# Altium integrated library Analog Devices Data Converters Analog-to-Digital Converters.IntLib: 2400 symbols (part 330 of 338)
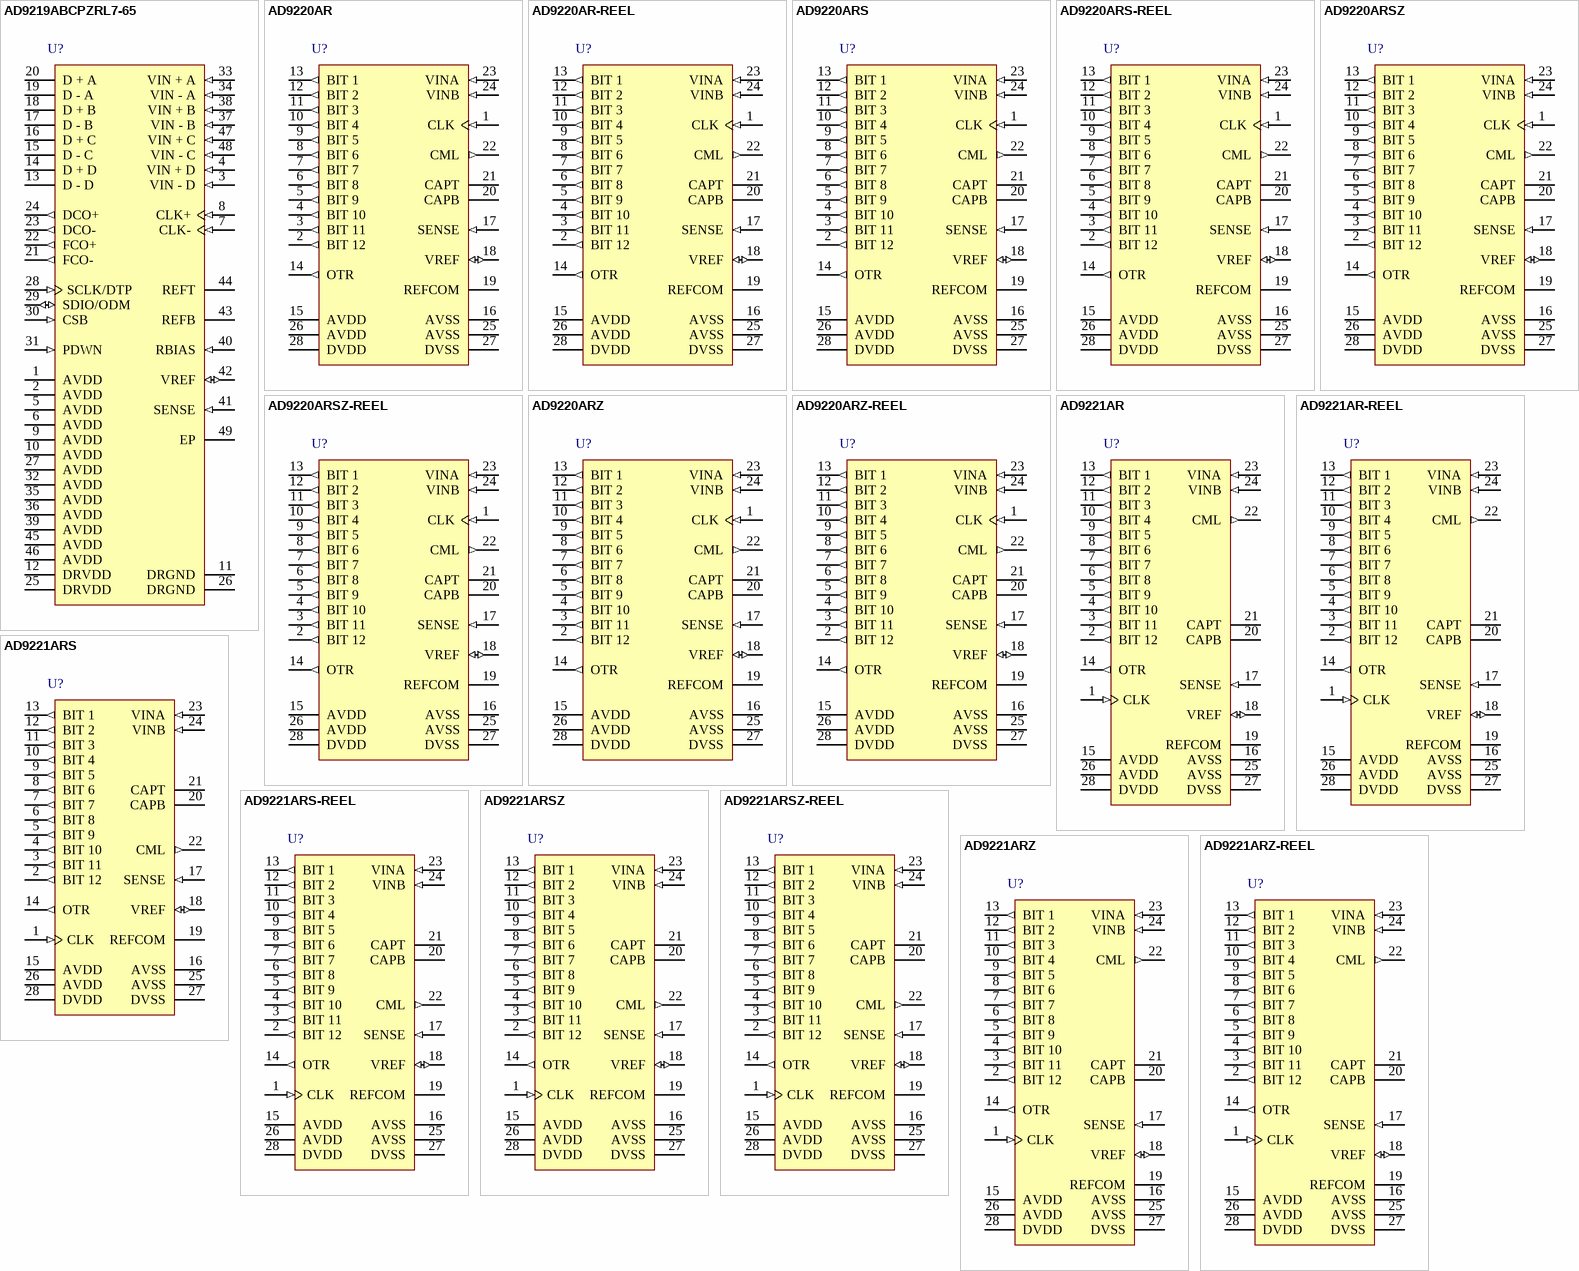
[diagram p434: symbols AD9219ABCPZRL7-65 to AD9221ARZ-REEL]

## AD9220ARZ-REEL
designator U?
Single 12-Bit Monolithic Analog-to-Digital Converter with Parallel Interface, 10MSPS, -40 to +85 degC, RW-28, Pb-Free, Reel; Part Number: AD9220; Manufacturer: Analog Devices; Resolution (Bits): 12; Channels: 1; Throughput Rate (SPS): 10M; Interface: Par; DatasheetVersion: Rev.E; PackageVersion: 060706-A; PackageReference: RW-28; PackageDescription: 28-Lead Standard Small Outline Package [SOIC_W]; RoHS: Y; Packing: Reel; Mounting Technology: Surface Mount; Code_JEDEC: MS-013-AE; ComponentLink1Description: Manufacturer URL; ComponentLink1URL: http://www.analog.com/en/index.html; ComponentLink2Description: Datasheet; ComponentLink2URL: http://www.analog.com/static/imported-files/data_sheets/AD9221_9223_9220.pdf; ComponentLink3Description: Package Specification; ComponentLink3URL: http://www.analog.com/static/imported-files/packages/35833120341221RW_28.pdf; ComponentLink4Description: Product URL; ComponentLink4URL: http://www.analog.com/en/analog-to-digital-converters/ad-converters/ad9220/products/product.html
footprint RW-28_N (SOIC, 28-Leads, Body 17.9x7.5mm, Pitch 1.27mm, IPC Medium Density)
footprint RW-28_L (SOIC, 28-Leads, Body 17.9x7.5mm, Pitch 1.27mm, IPC High Density)
footprint RW-28_M (SOIC, 28-Leads, Body 17.9x7.5mm, Pitch 1.27mm, IPC Low Density)
pins: 1 CLK (in) "Clock Input Pin", 2 BIT 12 (out) "Least Significant Data Bit (LSB)", 3 BIT 11 (out) "Data Output Bit", 4 BIT 10 (out) "Data Output Bit", 5 BIT 9 (out) "Data Output Bit", 6 BIT 8 (out) "Data Output Bit", 7 BIT 7 (out) "Data Output Bit", 8 BIT 6 (out) "Data Output Bit", 9 BIT 5 (out) "Data Output Bit", 10 BIT 4 (out) "Data Output Bit", 11 BIT 3 (out) "Data Output Bit", 12 BIT 2 (out) "Data Output Bit", 13 BIT 1 (out) "Most Significant Data Bit (MSB)", 14 OTR (out) "Out of Range", 15 AVDD (power) "5 V Analog Supply", 16 AVSS (power) "Analog Ground", 17 SENSE (in) "Reference Select", 18 VREF (io) "Reference I/O", 19 REFCOM (power) "Reference Common", 20 CAPB "Noise Reduction Pin", 21 CAPT "Noise Reduction Pin", 22 CML (out) "Common-Mode Level (Midsupply)", 23 VINA (in) "Analog Input Pin (+)", 24 VINB (in) "Analog Input Pin (-)", 25 AVSS (power) "Analog Ground", 26 AVDD (power) "5 V Analog Supply", 27 DVSS (power) "Digital Ground", 28 DVDD (power) "3 V to 5 V Digital Supply"

## AD9221AR
designator U?
Single 12-Bit Monolithic Analog-to-Digital Converter with Parallel Interface, 1.5MSPS, -40 to +85 degC, RW-28, Tube; Part Number: AD9221; Manufacturer: Analog Devices; Resolution (Bits): 12; Channels: 1; Throughput Rate (SPS): 1.5M; Interface: Par; DatasheetVersion: Rev.E; PackageVersion: 060706-A; PackageReference: RW-28; PackageDescription: 28-Lead Standard Small Outline Package [SOIC_W]; RoHS: N; Packing: Tube; Mounting Technology: Surface Mount; Code_JEDEC: MS-013-AE; ComponentLink1Description: Manufacturer URL; ComponentLink1URL: http://www.analog.com/en/index.html; ComponentLink2Description: Datasheet; ComponentLink2URL: http://www.analog.com/static/imported-files/data_sheets/AD9221_9223_9220.pdf; ComponentLink3Description: Package Specification; ComponentLink3URL: http://www.analog.com/static/imported-files/packages/35833120341221RW_28.pdf; ComponentLink4Description: Product URL; ComponentLink4URL: http://www.analog.com/en/analog-to-digital-converters/ad-converters/ad9221/products/product.html
footprint RW-28_N (SOIC, 28-Leads, Body 17.9x7.5mm, Pitch 1.27mm, IPC Medium Density)
footprint RW-28_L (SOIC, 28-Leads, Body 17.9x7.5mm, Pitch 1.27mm, IPC High Density)
footprint RW-28_M (SOIC, 28-Leads, Body 17.9x7.5mm, Pitch 1.27mm, IPC Low Density)
pins: 1 CLK (in) "Clock Input Pin", 2 BIT 12 (out) "Least Significant Data Bit (LSB)", 3 BIT 11 (out) "Data Output Bit", 4 BIT 10 (out) "Data Output Bit", 5 BIT 9 (out) "Data Output Bit", 6 BIT 8 (out) "Data Output Bit", 7 BIT 7 (out) "Data Output Bit", 8 BIT 6 (out) "Data Output Bit", 9 BIT 5 (out) "Data Output Bit", 10 BIT 4 (out) "Data Output Bit", 11 BIT 3 (out) "Data Output Bit", 12 BIT 2 (out) "Data Output Bit", 13 BIT 1 (out) "Most Significant Data Bit (MSB)", 14 OTR (out) "Out of Range", 15 AVDD (power) "5 V Analog Supply", 16 AVSS (power) "Analog Ground", 17 SENSE (in) "Reference Select", 18 VREF (io) "Input Span Select (Reference I/O)", 19 REFCOM (power) "Reference Common", 20 CAPB "Noise Reduction Pin", 21 CAPT "Noise Reduction Pin", 22 CML (out) "Common-Mode Level (Midsupply)", 23 VINA (in) "Analog Input Pin (+)", 24 VINB (in) "Analog Input Pin (-)", 25 AVSS (power) "Analog Ground", 26 AVDD (power) "5 V Analog Supply", 27 DVSS (power) "Digital Ground", 28 DVDD (power) "3 V to 5 V Digital Supply"

## AD9221AR-REEL
designator U?
Single 12-Bit Monolithic Analog-to-Digital Converter with Parallel Interface, 1.5MSPS, -40 to +85 degC, RW-28, Reel; Part Number: AD9221; Manufacturer: Analog Devices; Resolution (Bits): 12; Channels: 1; Throughput Rate (SPS): 1.5M; Interface: Par; DatasheetVersion: Rev.E; PackageVersion: 060706-A; PackageReference: RW-28; PackageDescription: 28-Lead Standard Small Outline Package [SOIC_W]; RoHS: N; Packing: Reel; Mounting Technology: Surface Mount; Code_JEDEC: MS-013-AE; ComponentLink1Description: Manufacturer URL; ComponentLink1URL: http://www.analog.com/en/index.html; ComponentLink2Description: Datasheet; ComponentLink2URL: http://www.analog.com/static/imported-files/data_sheets/AD9221_9223_9220.pdf; ComponentLink3Description: Package Specification; ComponentLink3URL: http://www.analog.com/static/imported-files/packages/35833120341221RW_28.pdf; ComponentLink4Description: Product URL; ComponentLink4URL: http://www.analog.com/en/analog-to-digital-converters/ad-converters/ad9221/products/product.html
footprint RW-28_N (SOIC, 28-Leads, Body 17.9x7.5mm, Pitch 1.27mm, IPC Medium Density)
footprint RW-28_L (SOIC, 28-Leads, Body 17.9x7.5mm, Pitch 1.27mm, IPC High Density)
footprint RW-28_M (SOIC, 28-Leads, Body 17.9x7.5mm, Pitch 1.27mm, IPC Low Density)
pins: 1 CLK (in) "Clock Input Pin", 2 BIT 12 (out) "Least Significant Data Bit (LSB)", 3 BIT 11 (out) "Data Output Bit", 4 BIT 10 (out) "Data Output Bit", 5 BIT 9 (out) "Data Output Bit", 6 BIT 8 (out) "Data Output Bit", 7 BIT 7 (out) "Data Output Bit", 8 BIT 6 (out) "Data Output Bit", 9 BIT 5 (out) "Data Output Bit", 10 BIT 4 (out) "Data Output Bit", 11 BIT 3 (out) "Data Output Bit", 12 BIT 2 (out) "Data Output Bit", 13 BIT 1 (out) "Most Significant Data Bit (MSB)", 14 OTR (out) "Out of Range", 15 AVDD (power) "5 V Analog Supply", 16 AVSS (power) "Analog Ground", 17 SENSE (in) "Reference Select", 18 VREF (io) "Input Span Select (Reference I/O)", 19 REFCOM (power) "Reference Common", 20 CAPB "Noise Reduction Pin", 21 CAPT "Noise Reduction Pin", 22 CML (out) "Common-Mode Level (Midsupply)", 23 VINA (in) "Analog Input Pin (+)", 24 VINB (in) "Analog Input Pin (-)", 25 AVSS (power) "Analog Ground", 26 AVDD (power) "5 V Analog Supply", 27 DVSS (power) "Digital Ground", 28 DVDD (power) "3 V to 5 V Digital Supply"

## AD9221ARS
designator U?
Single 12-Bit Monolithic Analog-to-Digital Converter with Parallel Interface, 1.5MSPS, -40 to +85 degC, RS-28, Tube; Part Number: AD9221; Manufacturer: Analog Devices; Resolution (Bits): 12; Channels: 1; Throughput Rate (SPS): 1.5M; Interface: Par; DatasheetVersion: Rev.E; PackageVersion: 060106-A; PackageReference: RS-28; PackageDescription: 28-Lead Shrink Small Outline Package [SSOP]; RoHS: N; Packing: Tube; Mounting Technology: Surface Mount; Code_JEDEC: MO-150-AH; ComponentLink1Description: Manufacturer URL; ComponentLink1URL: http://www.analog.com/en/index.html; ComponentLink2Description: Datasheet; ComponentLink2URL: http://www.analog.com/static/imported-files/data_sheets/AD9221_9223_9220.pdf; ComponentLink3Description: Package Specification; ComponentLink3URL: http://www.analog.com/static/imported-files/packages/32122249223724RS_28.pdf; ComponentLink4Description: Product URL; ComponentLink4URL: http://www.analog.com/en/analog-to-digital-converters/ad-converters/ad9221/products/product.html
footprint RS-28_N (SOP, 28-Leads, Body 10.2x5.3mm, Pitch 0.65mm, IPC Medium Density)
footprint RS-28_L (SOP, 28-Leads, Body 10.2x5.3mm, Pitch 0.65mm, IPC High Density)
footprint RS-28_M (SOP, 28-Leads, Body 10.2x5.3mm, Pitch 0.65mm, IPC Low Density)
pins: 1 CLK (in) "Clock Input Pin", 2 BIT 12 (out) "Least Significant Data Bit (LSB)", 3 BIT 11 (out) "Data Output Bit", 4 BIT 10 (out) "Data Output Bit", 5 BIT 9 (out) "Data Output Bit", 6 BIT 8 (out) "Data Output Bit", 7 BIT 7 (out) "Data Output Bit", 8 BIT 6 (out) "Data Output Bit", 9 BIT 5 (out) "Data Output Bit", 10 BIT 4 (out) "Data Output Bit", 11 BIT 3 (out) "Data Output Bit", 12 BIT 2 (out) "Data Output Bit", 13 BIT 1 (out) "Most Significant Data Bit (MSB)", 14 OTR (out) "Out of Range", 15 AVDD (power) "5 V Analog Supply", 16 AVSS (power) "Analog Ground", 17 SENSE (in) "Reference Select", 18 VREF (io) "Reference I/O", 19 REFCOM (power) "Reference Common", 20 CAPB "Noise Reduction Pin", 21 CAPT "Noise Reduction Pin", 22 CML (out) "Common-Mode Level (Midsupply)", 23 VINA (in) "Analog Input Pin (+)", 24 VINB (in) "Analog Input Pin (-)", 25 AVSS (power) "Analog Ground", 26 AVDD (power) "5 V Analog Supply", 27 DVSS (power) "Digital Ground", 28 DVDD (power) "3 V to 5 V Digital Supply"

## AD9221ARS-REEL
designator U?
Single 12-Bit Monolithic Analog-to-Digital Converter with Parallel Interface, 1.5MSPS, -40 to +85 degC, RS-28, Reel; Part Number: AD9221; Manufacturer: Analog Devices; Resolution (Bits): 12; Channels: 1; Throughput Rate (SPS): 1.5M; Interface: Par; DatasheetVersion: Rev.E; PackageVersion: 060106-A; PackageReference: RS-28; PackageDescription: 28-Lead Shrink Small Outline Package [SSOP]; RoHS: N; Packing: Reel; Mounting Technology: Surface Mount; Code_JEDEC: MO-150-AH; ComponentLink1Description: Manufacturer URL; ComponentLink1URL: http://www.analog.com/en/index.html; ComponentLink2Description: Datasheet; ComponentLink2URL: http://www.analog.com/static/imported-files/data_sheets/AD9221_9223_9220.pdf; ComponentLink3Description: Package Specification; ComponentLink3URL: http://www.analog.com/static/imported-files/packages/32122249223724RS_28.pdf; ComponentLink4Description: Product URL; ComponentLink4URL: http://www.analog.com/en/analog-to-digital-converters/ad-converters/ad9221/products/product.html
footprint RS-28_N (SOP, 28-Leads, Body 10.2x5.3mm, Pitch 0.65mm, IPC Medium Density)
footprint RS-28_L (SOP, 28-Leads, Body 10.2x5.3mm, Pitch 0.65mm, IPC High Density)
footprint RS-28_M (SOP, 28-Leads, Body 10.2x5.3mm, Pitch 0.65mm, IPC Low Density)
pins: 1 CLK (in) "Clock Input Pin", 2 BIT 12 (out) "Least Significant Data Bit (LSB)", 3 BIT 11 (out) "Data Output Bit", 4 BIT 10 (out) "Data Output Bit", 5 BIT 9 (out) "Data Output Bit", 6 BIT 8 (out) "Data Output Bit", 7 BIT 7 (out) "Data Output Bit", 8 BIT 6 (out) "Data Output Bit", 9 BIT 5 (out) "Data Output Bit", 10 BIT 4 (out) "Data Output Bit", 11 BIT 3 (out) "Data Output Bit", 12 BIT 2 (out) "Data Output Bit", 13 BIT 1 (out) "Most Significant Data Bit (MSB)", 14 OTR (out) "Out of Range", 15 AVDD (power) "5 V Analog Supply", 16 AVSS (power) "Analog Ground", 17 SENSE (in) "Reference Select", 18 VREF (io) "Reference I/O", 19 REFCOM (power) "Reference Common", 20 CAPB "Noise Reduction Pin", 21 CAPT "Noise Reduction Pin", 22 CML (out) "Common-Mode Level (Midsupply)", 23 VINA (in) "Analog Input Pin (+)", 24 VINB (in) "Analog Input Pin (-)", 25 AVSS (power) "Analog Ground", 26 AVDD (power) "5 V Analog Supply", 27 DVSS (power) "Digital Ground", 28 DVDD (power) "3 V to 5 V Digital Supply"

## AD9221ARSZ
designator U?
Single 12-Bit Monolithic Analog-to-Digital Converter with Parallel Interface, 1.5MSPS, -40 to +85 degC, RS-28, Pb-Free, Tube; Part Number: AD9221; Manufacturer: Analog Devices; Resolution (Bits): 12; Channels: 1; Throughput Rate (SPS): 1.5M; Interface: Par; DatasheetVersion: Rev.E; PackageVersion: 060106-A; PackageReference: RS-28; PackageDescription: 28-Lead Shrink Small Outline Package [SSOP]; RoHS: Y; Packing: Tube; Mounting Technology: Surface Mount; Code_JEDEC: MO-150-AH; ComponentLink1Description: Manufacturer URL; ComponentLink1URL: http://www.analog.com/en/index.html; ComponentLink2Description: Datasheet; ComponentLink2URL: http://www.analog.com/static/imported-files/data_sheets/AD9221_9223_9220.pdf; ComponentLink3Description: Package Specification; ComponentLink3URL: http://www.analog.com/static/imported-files/packages/32122249223724RS_28.pdf; ComponentLink4Description: Product URL; ComponentLink4URL: http://www.analog.com/en/analog-to-digital-converters/ad-converters/ad9221/products/product.html
footprint RS-28_N (SOP, 28-Leads, Body 10.2x5.3mm, Pitch 0.65mm, IPC Medium Density)
footprint RS-28_L (SOP, 28-Leads, Body 10.2x5.3mm, Pitch 0.65mm, IPC High Density)
footprint RS-28_M (SOP, 28-Leads, Body 10.2x5.3mm, Pitch 0.65mm, IPC Low Density)
pins: 1 CLK (in) "Clock Input Pin", 2 BIT 12 (out) "Least Significant Data Bit (LSB)", 3 BIT 11 (out) "Data Output Bit", 4 BIT 10 (out) "Data Output Bit", 5 BIT 9 (out) "Data Output Bit", 6 BIT 8 (out) "Data Output Bit", 7 BIT 7 (out) "Data Output Bit", 8 BIT 6 (out) "Data Output Bit", 9 BIT 5 (out) "Data Output Bit", 10 BIT 4 (out) "Data Output Bit", 11 BIT 3 (out) "Data Output Bit", 12 BIT 2 (out) "Data Output Bit", 13 BIT 1 (out) "Most Significant Data Bit (MSB)", 14 OTR (out) "Out of Range", 15 AVDD (power) "5 V Analog Supply", 16 AVSS (power) "Analog Ground", 17 SENSE (in) "Reference Select", 18 VREF (io) "Reference I/O", 19 REFCOM (power) "Reference Common", 20 CAPB "Noise Reduction Pin", 21 CAPT "Noise Reduction Pin", 22 CML (out) "Common-Mode Level (Midsupply)", 23 VINA (in) "Analog Input Pin (+)", 24 VINB (in) "Analog Input Pin (-)", 25 AVSS (power) "Analog Ground", 26 AVDD (power) "5 V Analog Supply", 27 DVSS (power) "Digital Ground", 28 DVDD (power) "3 V to 5 V Digital Supply"

## AD9221ARSZ-REEL
designator U?
Single 12-Bit Monolithic Analog-to-Digital Converter with Parallel Interface, 1.5MSPS, 0 to +70 degC, RS-28, Pb-Free, Reel; Part Number: AD9221; Manufacturer: Analog Devices; Resolution (Bits): 12; Channels: 1; Throughput Rate (SPS): 1.5M; Interface: Par; DatasheetVersion: Rev.E; PackageVersion: 060106-A; PackageReference: RS-28; PackageDescription: 28-Lead Shrink Small Outline Package [SSOP]; RoHS: Y; Packing: Reel; Mounting Technology: Surface Mount; Code_JEDEC: MO-150-AH; ComponentLink1Description: Manufacturer URL; ComponentLink1URL: http://www.analog.com/en/index.html; ComponentLink2Description: Datasheet; ComponentLink2URL: http://www.analog.com/static/imported-files/data_sheets/AD9221_9223_9220.pdf; ComponentLink3Description: Package Specification; ComponentLink3URL: http://www.analog.com/static/imported-files/packages/32122249223724RS_28.pdf; ComponentLink4Description: Product URL; ComponentLink4URL: http://www.analog.com/en/analog-to-digital-converters/ad-converters/ad9221/products/product.html
footprint RS-28_N (SOP, 28-Leads, Body 10.2x5.3mm, Pitch 0.65mm, IPC Medium Density)
footprint RS-28_L (SOP, 28-Leads, Body 10.2x5.3mm, Pitch 0.65mm, IPC High Density)
footprint RS-28_M (SOP, 28-Leads, Body 10.2x5.3mm, Pitch 0.65mm, IPC Low Density)
pins: 1 CLK (in) "Clock Input Pin", 2 BIT 12 (out) "Least Significant Data Bit (LSB)", 3 BIT 11 (out) "Data Output Bit", 4 BIT 10 (out) "Data Output Bit", 5 BIT 9 (out) "Data Output Bit", 6 BIT 8 (out) "Data Output Bit", 7 BIT 7 (out) "Data Output Bit", 8 BIT 6 (out) "Data Output Bit", 9 BIT 5 (out) "Data Output Bit", 10 BIT 4 (out) "Data Output Bit", 11 BIT 3 (out) "Data Output Bit", 12 BIT 2 (out) "Data Output Bit", 13 BIT 1 (out) "Most Significant Data Bit (MSB)", 14 OTR (out) "Out of Range", 15 AVDD (power) "5 V Analog Supply", 16 AVSS (power) "Analog Ground", 17 SENSE (in) "Reference Select", 18 VREF (io) "Reference I/O", 19 REFCOM (power) "Reference Common", 20 CAPB "Noise Reduction Pin", 21 CAPT "Noise Reduction Pin", 22 CML (out) "Common-Mode Level (Midsupply)", 23 VINA (in) "Analog Input Pin (+)", 24 VINB (in) "Analog Input Pin (-)", 25 AVSS (power) "Analog Ground", 26 AVDD (power) "5 V Analog Supply", 27 DVSS (power) "Digital Ground", 28 DVDD (power) "3 V to 5 V Digital Supply"

## AD9221ARZ
designator U?
Single 12-Bit Monolithic Analog-to-Digital Converter with Parallel Interface, 1.5MSPS, -40 to +85 degC, RW-28, Pb-Free, Tube; Part Number: AD9221; Manufacturer: Analog Devices; Resolution (Bits): 12; Channels: 1; Throughput Rate (SPS): 1.5M; Interface: Par; DatasheetVersion: Rev.E; PackageVersion: 060706-A; PackageReference: RW-28; PackageDescription: 28-Lead Standard Small Outline Package [SOIC_W]; RoHS: Y; Packing: Tube; Mounting Technology: Surface Mount; Code_JEDEC: MS-013-AE; ComponentLink1Description: Manufacturer URL; ComponentLink1URL: http://www.analog.com/en/index.html; ComponentLink2Description: Datasheet; ComponentLink2URL: http://www.analog.com/static/imported-files/data_sheets/AD9221_9223_9220.pdf; ComponentLink3Description: Package Specification; ComponentLink3URL: http://www.analog.com/static/imported-files/packages/35833120341221RW_28.pdf; ComponentLink4Description: Product URL; ComponentLink4URL: http://www.analog.com/en/analog-to-digital-converters/ad-converters/ad9221/products/product.html
footprint RW-28_N (SOIC, 28-Leads, Body 17.9x7.5mm, Pitch 1.27mm, IPC Medium Density)
footprint RW-28_L (SOIC, 28-Leads, Body 17.9x7.5mm, Pitch 1.27mm, IPC High Density)
footprint RW-28_M (SOIC, 28-Leads, Body 17.9x7.5mm, Pitch 1.27mm, IPC Low Density)
pins: 1 CLK (in) "Clock Input Pin", 2 BIT 12 (out) "Least Significant Data Bit (LSB)", 3 BIT 11 (out) "Data Output Bit", 4 BIT 10 (out) "Data Output Bit", 5 BIT 9 (out) "Data Output Bit", 6 BIT 8 (out) "Data Output Bit", 7 BIT 7 (out) "Data Output Bit", 8 BIT 6 (out) "Data Output Bit", 9 BIT 5 (out) "Data Output Bit", 10 BIT 4 (out) "Data Output Bit", 11 BIT 3 (out) "Data Output Bit", 12 BIT 2 (out) "Data Output Bit", 13 BIT 1 (out) "Most Significant Data Bit (MSB)", 14 OTR (out) "Out of Range", 15 AVDD (power) "5 V Analog Supply", 16 AVSS (power) "Analog Ground", 17 SENSE (in) "Reference Select", 18 VREF (io) "Input Span Select (Reference I/O)", 19 REFCOM (power) "Reference Common", 20 CAPB "Noise Reduction Pin", 21 CAPT "Noise Reduction Pin", 22 CML (out) "Common-Mode Level (Midsupply)", 23 VINA (in) "Analog Input Pin (+)", 24 VINB (in) "Analog Input Pin (-)", 25 AVSS (power) "Analog Ground", 26 AVDD (power) "5 V Analog Supply", 27 DVSS (power) "Digital Ground", 28 DVDD (power) "3 V to 5 V Digital Supply"